# EAGLE library part IC_UC_MSP430F2132 (library dp_devices)
16-bit Ultra-Low-Power Microcontroller, 8kB Flash, 512B RAM, 10 bit ADC, 1 USCI
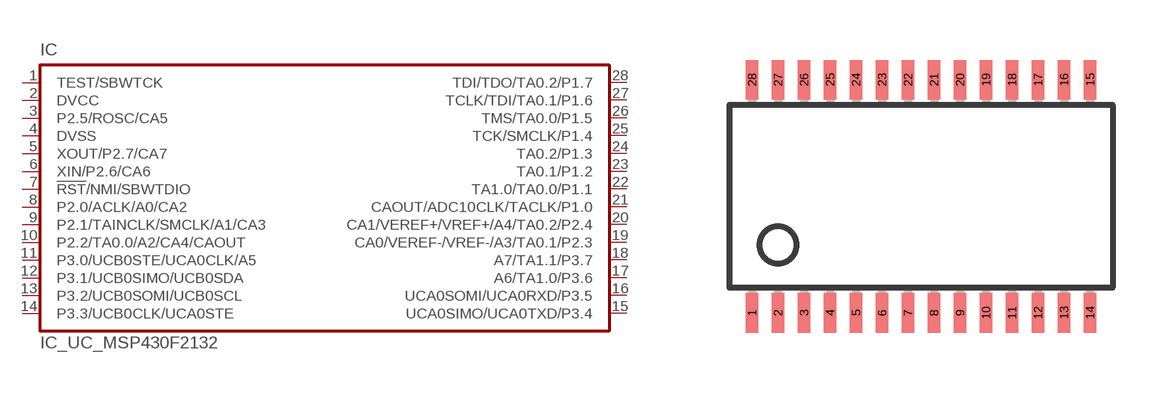
[diagram p65: symbol with the pads of TSSOP-28; footprint TSSOP-28]

Designator prefix IC

## IC_UC_MSP430F2132  [TSSOP-28]
1  TEST/SBWTCK  in
2  DVCC  pwr
3  P2.5/ROSC/CA5
4  DVSS  pwr
5  XOUT/P2.7/CA7
6  XIN/P2.6/CA6
7  !RST!/NMI/SBWTDIO  in
8  P2.0/ACLK/A0/CA2
9  P2.1/TAINCLK/SMCLK/A1/CA3
10  P2.2/TA0.0/A2/CA4/CAOUT
11  P3.0/UCB0STE/UCA0CLK/A5
12  P3.1/UCB0SIMO/UCB0SDA
13  P3.2/UCB0SOMI/UCB0SCL
14  P3.3/UCB0CLK/UCA0STE
15  UCA0SIMO/UCA0TXD/P3.4
16  UCA0SOMI/UCA0RXD/P3.5
17  A6/TA1.0/P3.6
18  A7/TA1.1/P3.7
19  CA0/VEREF-/VREF-/A3/TA0.1/P2.3  pwr
20  CA1/VEREF+/VREF+/A4/TA0.2/P2.4  pwr
21  CAOUT/ADC10CLK/TACLK/P1.0
22  TA1.0/TA0.0/P1.1
23  TA0.1/P1.2
24  TA0.2/P1.3
25  TCK/SMCLK/P1.4
26  TMS/TA0.0/P1.5
27  TCLK/TDI/TA0.1/P1.6
28  TDI/TDO/TA0.2/P1.7

## Footprint TSSOP-28 (pad centres in mm)
Thin Shrink Small Outline Plastic 28 (TSSOP28)
smd 0.305 x 0.991: 1 -4.225,-2.918; 2 -3.575,-2.918; 3 -2.925,-2.918; 4 -2.275,-2.918; 5 -1.625,-2.918; 6 -0.975,-2.918; 7 -0.325,-2.918; 8 0.325,-2.918; 9 0.975,-2.918; 10 1.625,-2.918; 11 2.275,-2.918; 12 2.925,-2.918; 13 3.575,-2.918; 14 4.225,-2.918; 15 4.225,2.918; 16 3.575,2.918; 17 2.925,2.918; 18 2.275,2.918; 19 1.625,2.918; 20 0.975,2.918; 21 0.325,2.918; 22 -0.325,2.918; 23 -0.975,2.918; 24 -1.625,2.918; 25 -2.275,2.918; 26 -2.925,2.918; 27 -3.575,2.918; 28 -4.225,2.918